# Altium footprint library PcbLib_Acura.PcbLib: 137 footprints (part 9 of 9)
Each footprint in its own frame and in the unit in brackets; x right, y up, seen from the top. Pads: shape width x height; smd on the part's side, far side on the other; paste and mask are expansions set on the pad; w line width, h text height; cw(c..) or ccw(c..) is an arc to the next point about the centre after c.
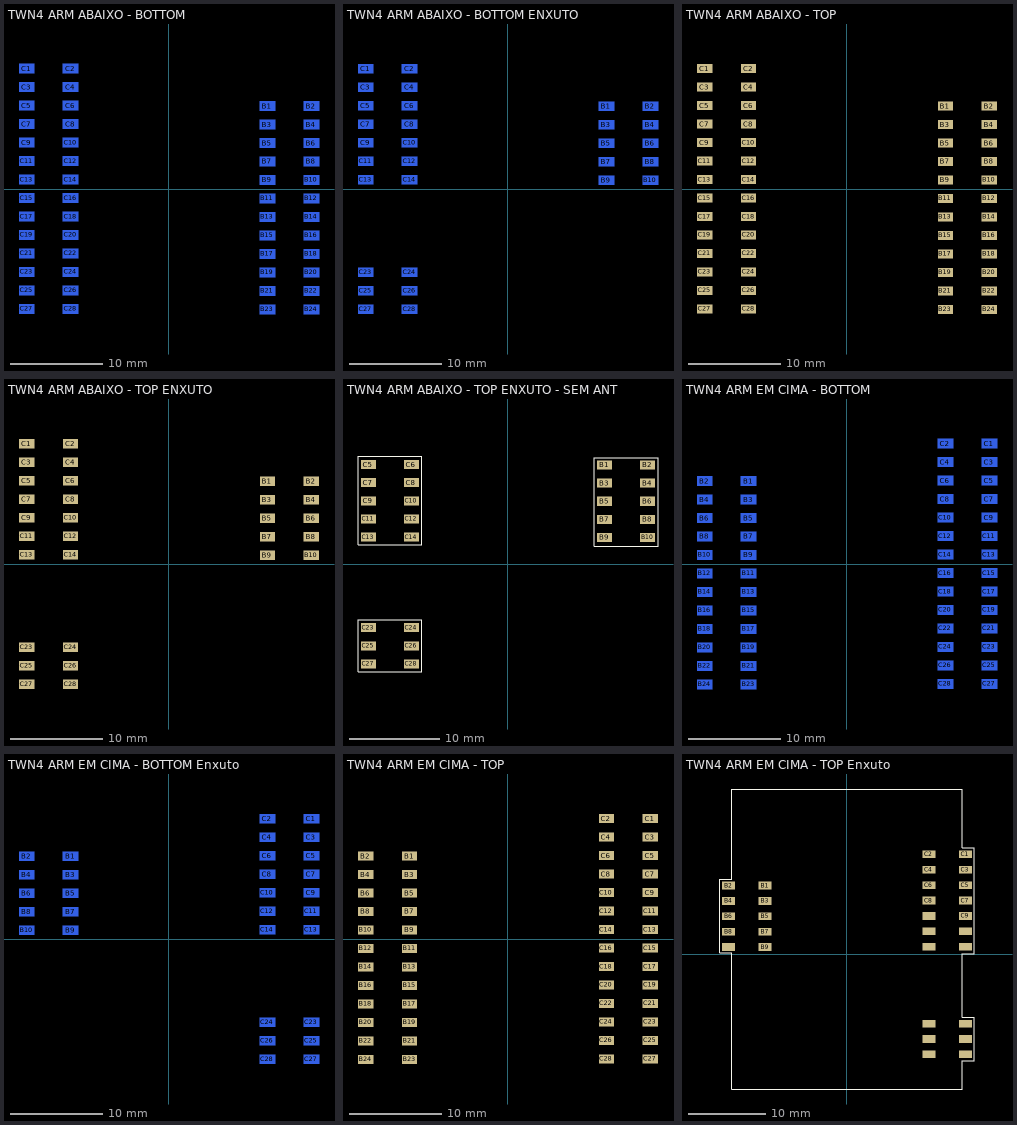
[diagram p8: the footprints below, top view; thin cyan lines are the x and y axes]

## TWN4 ARM ABAIXO - BOTTOM [mm] "TWN4 Core Module"
pads (52):
  rect 1.65x1 smd far side: B1(10.65,8.975) B2(15.4,8.975) B3(10.65,6.975) B4(15.4,6.975) B5(10.65,4.975) B6(15.4,4.975) B7(10.65,2.975) B8(15.4,2.975) B9(10.65,0.975) B10(15.4,0.975) B11(10.65,-1.025) B12(15.4,-1.025) B13(10.65,-3.025) B14(15.4,-3.025) B15(10.65,-5.025) B16(15.4,-5.025) B17(10.65,-7.025) B18(15.4,-7.025) B19(10.65,-9.025) B20(15.4,-9.025) B21(10.65,-11.025) B22(15.4,-11.025) B23(10.65,-13.025) B24(15.4,-13.025) C1(-15.4,13.025) C2(-10.65,13.025) C3(-15.4,11.025) C4(-10.65,11.025) C5(-15.4,9.025) C6(-10.65,9.025) C7(-15.4,7.025) C8(-10.65,7.025) C9(-15.4,5.025) C10(-10.65,5.025) C11(-15.4,3.025) C12(-10.65,3.025) C13(-15.4,1.025) C14(-10.65,1.025) C15(-15.4,-0.975) C16(-10.65,-0.975) C17(-15.4,-2.975) C18(-10.65,-2.975) C19(-15.4,-4.975) C20(-10.65,-4.975) C21(-15.4,-6.975) C22(-10.65,-6.975) C23(-15.4,-8.975) C24(-10.65,-8.975) C25(-15.4,-10.975) C26(-10.65,-10.975) C27(-15.4,-12.975) C28(-10.65,-12.975)

## TWN4 ARM ABAIXO - BOTTOM ENXUTO [mm] "TWN4 Core Module"
pads (30):
  rect 1.65x1 smd far side: B1(10.65,8.95) B2(15.4,8.95) B3(10.65,6.95) B4(15.4,6.95) B5(10.65,4.95) B6(15.4,4.95) B7(10.65,2.95) B8(15.4,2.95) B9(10.65,0.95) B10(15.4,0.95) C1(-15.4,13) C2(-10.65,13) C3(-15.4,11) C4(-10.65,11) C5(-15.4,9) C6(-10.65,9) C7(-15.4,7) C8(-10.65,7) C9(-15.4,5) C10(-10.65,5) C11(-15.4,3) C12(-10.65,3) C13(-15.4,1) C14(-10.65,1) C23(-15.4,-9) C24(-10.65,-9) C25(-15.4,-11) C26(-10.65,-11) C27(-15.4,-13) C28(-10.65,-13)

## TWN4 ARM ABAIXO - TOP [mm] "TWN4 Core Module"
pads (52):
  rect 1.65x1 smd: B1(10.65,8.975) B2(15.4,8.975) B3(10.65,6.975) B4(15.4,6.975) B5(10.65,4.975) B6(15.4,4.975) B7(10.65,2.975) B8(15.4,2.975) B9(10.65,0.975) B10(15.4,0.975) B11(10.65,-1.025) B12(15.4,-1.025) B13(10.65,-3.025) B14(15.4,-3.025) B15(10.65,-5.025) B16(15.4,-5.025) B17(10.65,-7.025) B18(15.4,-7.025) B19(10.65,-9.025) B20(15.4,-9.025) B21(10.65,-11.025) B22(15.4,-11.025) B23(10.65,-13.025) B24(15.4,-13.025) C1(-15.4,13.025) C2(-10.65,13.025) C3(-15.4,11.025) C4(-10.65,11.025) C5(-15.4,9.025) C6(-10.65,9.025) C7(-15.4,7.025) C8(-10.65,7.025) C9(-15.4,5.025) C10(-10.65,5.025) C11(-15.4,3.025) C12(-10.65,3.025) C13(-15.4,1.025) C14(-10.65,1.025) C15(-15.4,-0.975) C16(-10.65,-0.975) C17(-15.4,-2.975) C18(-10.65,-2.975) C19(-15.4,-4.975) C20(-10.65,-4.975) C21(-15.4,-6.975) C22(-10.65,-6.975) C23(-15.4,-8.975) C24(-10.65,-8.975) C25(-15.4,-10.975) C26(-10.65,-10.975) C27(-15.4,-12.975) C28(-10.65,-12.975)

## TWN4 ARM ABAIXO - TOP ENXUTO [mm] "TWN4 Core Module"
pads (30):
  rect 1.65x1 smd: B1(10.65,8.95) B2(15.4,8.95) B3(10.65,6.95) B4(15.4,6.95) B5(10.65,4.95) B6(15.4,4.95) B7(10.65,2.95) B8(15.4,2.95) B9(10.65,0.95) B10(15.4,0.95) C1(-15.4,13) C2(-10.65,13) C3(-15.4,11) C4(-10.65,11) C5(-15.4,9) C6(-10.65,9) C7(-15.4,7) C8(-10.65,7) C9(-15.4,5) C10(-10.65,5) C11(-15.4,3) C12(-10.65,3) C13(-15.4,1) C14(-10.65,1) C23(-15.4,-9) C24(-10.65,-9) C25(-15.4,-11) C26(-10.65,-11) C27(-15.4,-13) C28(-10.65,-13)

## TWN4 ARM ABAIXO - TOP ENXUTO - SEM ANT [mm] "TWN4 Core Module"
pads (26):
  rect 1.65x1 smd: B1(10.65,10.95) B2(15.4,10.95) B3(10.65,8.95) B4(15.4,8.95) B5(10.65,6.95) B6(15.4,6.95) B7(10.65,4.95) B8(15.4,4.95) B9(10.65,2.95) B10(15.4,2.95) C5(-15.4,11) C6(-10.65,11) C7(-15.4,9) C8(-10.65,9) C9(-15.4,7) C10(-10.65,7) C11(-15.4,5) C12(-10.65,5) C13(-15.4,3) C14(-10.65,3) C23(-15.4,-7) C24(-10.65,-7) C25(-15.4,-9) C26(-10.65,-9) C27(-15.4,-11) C28(-10.65,-11)
Top Overlay:
  lines w0.1: -16.55,-11.85 -16.55,-6.15 -9.5,-6.15 -9.5,-11.85 -16.55,-11.85 ; -16.55,2.15 -16.55,11.9 -9.5,11.9 -9.5,2.15 -16.55,2.15 ; 9.5,2 16.55,2 16.55,11.75 9.5,11.75 9.5,2

## TWN4 ARM EM CIMA - BOTTOM [mm] "TWN4 Core Module"
pads (52):
  rect 1.65x1 smd far side: B1(-10.65,8.975) B2(-15.4,8.975) B3(-10.65,6.975) B4(-15.4,6.975) B5(-10.65,4.975) B6(-15.4,4.975) B7(-10.65,2.975) B8(-15.4,2.975) B9(-10.65,0.975) B10(-15.4,0.975) B11(-10.65,-1.025) B12(-15.4,-1.025) B13(-10.65,-3.025) B14(-15.4,-3.025) B15(-10.65,-5.025) B16(-15.4,-5.025) B17(-10.65,-7.025) B18(-15.4,-7.025) B19(-10.65,-9.025) B20(-15.4,-9.025) B21(-10.65,-11.025) B22(-15.4,-11.025) B23(-10.65,-13.025) B24(-15.4,-13.025) C1(15.4,13.025) C2(10.65,13.025) C3(15.4,11.025) C4(10.65,11.025) C5(15.4,9.025) C6(10.65,9.025) C7(15.4,7.025) C8(10.65,7.025) C9(15.4,5.025) C10(10.65,5.025) C11(15.4,3.025) C12(10.65,3.025) C13(15.4,1.025) C14(10.65,1.025) C15(15.4,-0.975) C16(10.65,-0.975) C17(15.4,-2.975) C18(10.65,-2.975) C19(15.4,-4.975) C20(10.65,-4.975) C21(15.4,-6.975) C22(10.65,-6.975) C23(15.4,-8.975) C24(10.65,-8.975) C25(15.4,-10.975) C26(10.65,-10.975) C27(15.4,-12.975) C28(10.65,-12.975)

## TWN4 ARM EM CIMA - BOTTOM Enxuto [mm] "TWN4 Core Module"
pads (30):
  rect 1.65x1 smd far side: B1(-10.65,8.95) B2(-15.4,8.95) B3(-10.65,6.95) B4(-15.4,6.95) B5(-10.65,4.95) B6(-15.4,4.95) B7(-10.65,2.95) B8(-15.4,2.95) B9(-10.65,0.95) B10(-15.4,0.95) C1(15.4,13) C2(10.65,13) C3(15.4,11) C4(10.65,11) C5(15.4,9) C6(10.65,9) C7(15.4,7) C8(10.65,7) C9(15.4,5) C10(10.65,5) C11(15.4,3) C12(10.65,3) C13(15.4,1) C14(10.65,1) C23(15.4,-9) C24(10.65,-9) C25(15.4,-11) C26(10.65,-11) C27(15.4,-13) C28(10.65,-13)

## TWN4 ARM EM CIMA - TOP [mm] "TWN4 Core Module"
pads (52):
  rect 1.65x1 smd: B1(-10.65,8.975) B2(-15.4,8.975) B3(-10.65,6.975) B4(-15.4,6.975) B5(-10.65,4.975) B6(-15.4,4.975) B7(-10.65,2.975) B8(-15.4,2.975) B9(-10.65,0.975) B10(-15.4,0.975) B11(-10.65,-1.025) B12(-15.4,-1.025) B13(-10.65,-3.025) B14(-15.4,-3.025) B15(-10.65,-5.025) B16(-15.4,-5.025) B17(-10.65,-7.025) B18(-15.4,-7.025) B19(-10.65,-9.025) B20(-15.4,-9.025) B21(-10.65,-11.025) B22(-15.4,-11.025) B23(-10.65,-13.025) B24(-15.4,-13.025) C1(15.4,13.025) C2(10.65,13.025) C3(15.4,11.025) C4(10.65,11.025) C5(15.4,9.025) C6(10.65,9.025) C7(15.4,7.025) C8(10.65,7.025) C9(15.4,5.025) C10(10.65,5.025) C11(15.4,3.025) C12(10.65,3.025) C13(15.4,1.025) C14(10.65,1.025) C15(15.4,-0.975) C16(10.65,-0.975) C17(15.4,-2.975) C18(10.65,-2.975) C19(15.4,-4.975) C20(10.65,-4.975) C21(15.4,-6.975) C22(10.65,-6.975) C23(15.4,-8.975) C24(10.65,-8.975) C25(15.4,-10.975) C26(10.65,-10.975) C27(15.4,-12.975) C28(10.65,-12.975)

## TWN4 ARM EM CIMA - TOP Enxuto [mm] "TWN4 Core Module"
pads (30):
  rect 1.65x1 smd: B1(-10.65,8.95) B2(-15.4,8.95) B3(-10.65,6.95) B4(-15.4,6.95) B5(-10.65,4.95) B6(-15.4,4.95) B7(-10.65,2.95) B8(-15.4,2.95) B9(-10.65,0.95) B10(-15.4,0.95) C1(15.4,13) C2(10.65,13) C3(15.4,11) C4(10.65,11) C5(15.4,9) C6(10.65,9) C7(15.4,7) C8(10.65,7) C9(15.4,5) C10(10.65,5) C11(15.4,3) C12(10.65,3) C13(15.4,1) C14(10.65,1) C23(15.4,-9) C24(10.65,-9) C25(15.4,-11) C26(10.65,-11) C27(15.4,-13) C28(10.65,-13)
Top Overlay:
  lines w0.1: -16.55,0.2 -15,0.2 -15,-17.5 15,-17.5 15,-13.85 16.55,-13.85 16.55,-8.15 15,-8.15 15,0.1 16.55,0.1 16.55,13.85 15,13.85 15,21.5 -15,21.5 -15,9.75 -16.55,9.75 -16.55,0.2